# Altium footprint library DIP-DBL  0607.PCBLIB: 54 footprints (part 3 of 4)
Each footprint in its own frame and in the unit in brackets; x right, y up, seen from the top. Pads: shape width x height; smd on the part's side, far side on the other; paste and mask are expansions set on the pad; w line width, h text height; cw(c..) or ccw(c..) is an arc to the next point about the centre after c.
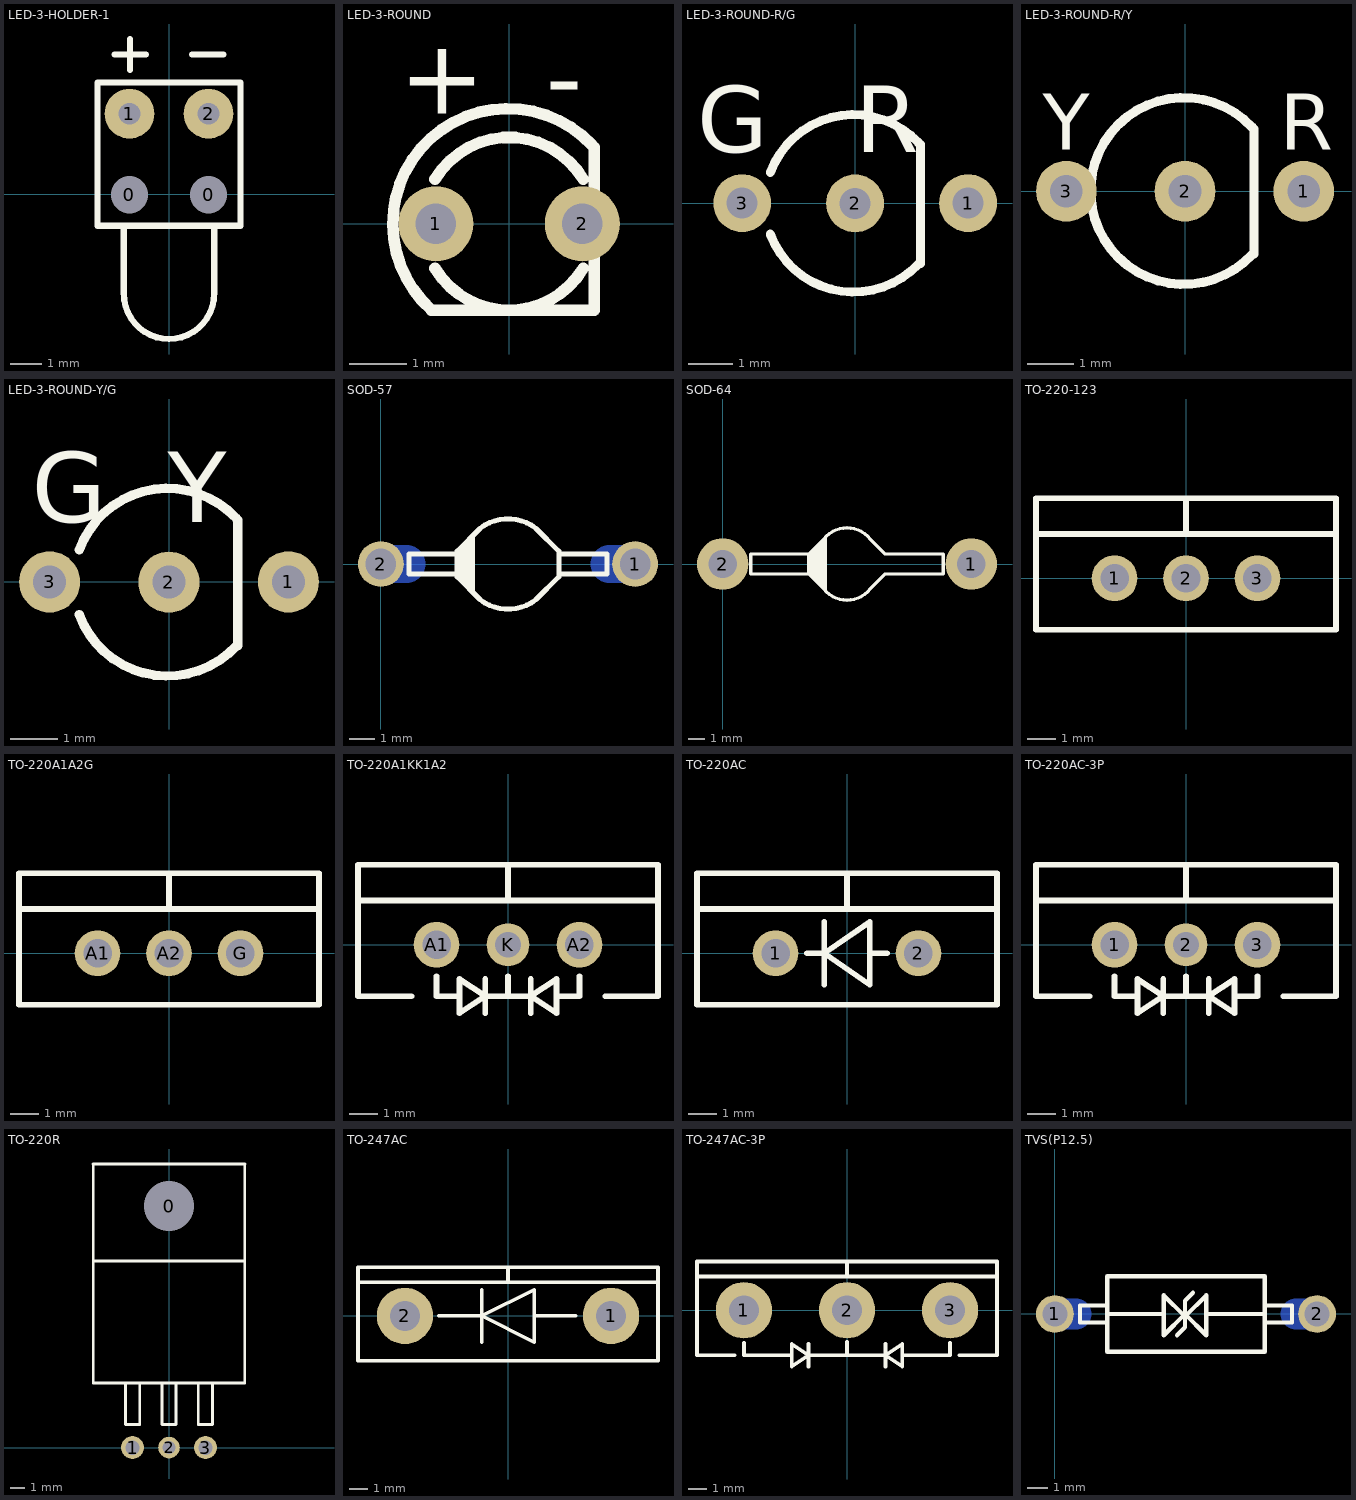
[diagram p2: the footprints below, top view; thin cyan lines are the x and y axes]

## LED-3-HOLDER-1 [mm]
height 8.6
pads (4):
  round 0.8 hole 1.2 unplated: 0(-1.27,-0.009) 0(1.27,-0.009)
  round 1.6 hole 0.7 unplated: 1(-1.27,2.591) 2(1.27,2.591)
TopOverlay:
  lines w0.2: -1.75,4.491 -0.75,4.491 ; -1.45,-1.009 -1.45,-3.195 ccw(c0,-3.195) 1.45,-3.195 1.45,-1.009 ; -1.25,3.991 -1.25,4.991 ; 0.75,4.491 1.75,4.491 ; -2.3,-1.009 -2.3,3.591 2.3,3.591 2.3,-1.009 -2.3,-1.009
BottomOverlay:
  lines w0.7: 0,1.651 0,3.429

## LED-3-ROUND [mm]
height 6
pads (2):
  round 1.3 hole 0.7: 1(-1.27,0) 2(1.27,0)
TopOverlay:
  lines w0.2: -1.35,-1.5 1.48,-1.5 1.48,1.325 ; -1.346,-1.495 cw(c-0.02,0) 1.441,1.363 ; -1.286,-0.772 ccw(c0,0) 1.286,-0.772 ; -1.286,0.772 cw(c0,0) 1.286,0.772
  text "-" at 0.635,1.905 h1.3
  text "+" at -1.905,1.905 h1.3
BottomOverlay:
  lines w0.7: 0,-0.94 0,0.838

## LED-3-ROUND-R/G [mm]
pads (3):
  round 1.3 hole 0.7: 1(2.54,0) 2(-0.001,-0.004) 3(-2.54,0)
TopOverlay:
  lines w0.2: -1.909,-0.692 ccw(c-0.034,-0.001) 1.427,-1.364 ; -1.909,0.683 cw(c-0.034,-0.008) 1.427,1.355 ; 1.466,-1.358 1.466,1.317
  text "G   R" at -3.556,1.143 h1.5
BottomOverlay:
  lines w0.7: -1.27,-0.94 -1.27,0.838 ; 1.269,-0.944 1.269,0.834

## LED-3-ROUND-R/Y [mm]
pads (3):
  round 1.3 hole 0.7: 1(2.54,0) 2(0,0) 3(-2.54,0)
TopOverlay:
  lines w0.2: 1.437,-1.356 cw(c-0.024,0.007) 1.437,1.37 ; 1.476,-1.343 1.476,1.332
  text "Y" at -3.048,0.889 h1.2
  text "R" at 2.032,0.889 h1.2
BottomOverlay:
  lines w0.7: -1.27,-0.94 -1.27,0.838 ; 1.27,-0.94 1.27,0.838

## LED-3-ROUND-Y/G [mm]
pads (3):
  round 1.3 hole 0.7: 1(2.54,0) 2(-0.001,-0.004) 3(-2.54,0)
TopOverlay:
  lines w0.2: -1.909,-0.692 ccw(c-0.034,-0.001) 1.427,-1.364 ; -1.909,0.683 cw(c-0.034,-0.008) 1.427,1.355 ; 1.466,-1.358 1.466,1.317
  text "G  Y" at -2.921,1.27 h1.5
BottomOverlay:
  lines w0.7: -1.27,-0.94 -1.27,0.838 ; 1.269,-0.944 1.269,0.834

## SOD-57 [mm]
pads (2):
  round 1.8 hole 1.2: 1(10,0) 2(0,0)
BottomLayer:
  lines w1.5: 0,0 1,0 ; 9,0 10,0
TopOverlay:
  lines w0.2: 3,-0.4 1.1,-0.4 1.1,0.4 3,0.4 ; 3.1,-0.575 3.1,0.575 ; 3.25,-0.725 3.25,0.7 ; 3.425,-0.875 3.425,0.875 ; 3.6,-1.05 3.6,1.075 ; 7,-0.4 8.9,-0.4 8.9,0.4 7,0.4 ; 7,-0.5 7,0.5 ; 7,-0.5 6.1,-1.4 cw(c5,0) 3.9,-1.4 3,-0.5 3,0.5 3.9,1.4 cw(c5,0) 6.1,1.4 7,0.5 ; 7,-0.5 7,0.5
BottomSolder:
  lines w1: 0,0 1,0 ; 9,0 10,0

## SOD-64 [mm]
pads (2):
  round 3.1 hole 1.7: 1(15,0) 2(0,0)
TopOverlay:
  lines w0.2: 5.3,-0.6 5.3,0.7 ; 5.5,-0.8 5.5,0.8 ; 5.6,-1 5.6,0.9 ; 5.7,-1.1 5.7,1.1 ; 5.9,-1.3 5.9,1.2 ; 6,-1.4 6,1.4 ; 6.2,-1.6 6.2,1.6 ; 5.2,-0.6 5.2,0.6 ; 5.2,-0.6 1.7,-0.6 1.7,0.6 5.2,0.6 ; 5.2,-0.6 6.1,-1.5 ccw(c7.5,-0.4) 8.9,-1.5 9.8,-0.6 13.3,-0.6 13.3,0.6 9.8,0.6 8.9,1.5 ccw(c7.5,0.4) 6.1,1.5 5.2,0.6

## TO-220-123 [mm] "LM7815"
height 20
pads (3):
  round 1.6 hole 1: 1(-2.5,0) 2(0,0) 3(2.5,0)
TopOverlay:
  lines w0.2: -5.25,1.55 5.25,1.55 ; 0,1.55 0,2.8 ; -5.25,-1.8 -5.25,2.8 5.25,2.8 5.25,-1.8 -5.25,-1.8
BottomOverlay:
  lines w0.7: -1.25,-1 -1.25,1 ; 1.25,-1 1.25,1

## TO-220A1A2G [mm]
height 20
pads (3):
  round 1.6 hole 1: A1(-2.5,0) A2(0,0) G(2.5,0)
TopOverlay:
  lines w0.2: -5.25,1.55 5.25,1.55 ; 0,1.55 0,2.8 ; -5.25,-1.8 5.25,-1.8 5.25,2.8 -5.25,2.8 -5.25,-1.8
BottomOverlay:
  lines w0.7: -1.25,-1 -1.25,1 ; 1.25,-1 1.25,1

## TO-220A1KK1A2 [mm]
height 20
pads (3):
  round 1.6 hole 1: A1(-2.5,0) A2(2.5,0)
  round 1.5 hole 0.9: K(0,0)
TopOverlay:
  lines w0.2: -5.25,1.55 5.25,1.55 ; -3.375,-1.8 -5.25,-1.8 -5.25,2.8 5.25,2.8 5.25,-1.8 3.4,-1.8 ; -2.5,-1.1 -2.5,-1.8 -1.7,-1.8 ; -0.8,-2.4 -0.8,-1.2 ; 0,-1.1 0,-1.8 ; 0,1.55 0,2.8 ; 0.8,-2.4 0.8,-1.2 ; 1.7,-1.8 2.5,-1.8 2.5,-1.1 ; -0.8,-1.8 -1.7,-2.4 -1.7,-1.2 -0.8,-1.8 ; -0.8,-1.8 0,-1.8 ; 0,-1.8 0.8,-1.8 ; 0.8,-1.8 1.7,-2.4 1.7,-1.2 0.8,-1.8
BottomOverlay:
  lines w0.7: -1.25,-1 -1.25,1 ; 1.25,-1 1.25,1

## TO-220AC [mm]
height 20
pads (2):
  round 1.6 hole 1: 1(-2.5,0) 2(2.5,0)
TopOverlay:
  lines w0.2: -5.25,1.55 5.25,1.55 ; -1.4,0 -0.8,0 ; -0.8,-1.1 -0.8,1.1 ; 0,1.55 0,2.8 ; 0.8,0 1.4,0 ; -0.8,0 0.8,-1.1 0.8,1.1 -0.8,0 ; -5.25,-1.8 5.25,-1.8 5.25,2.8 -5.25,2.8 -5.25,-1.8

## TO-220AC-3P [mm]
height 20
pads (3):
  round 1.6 hole 1: 1(-2.5,0) 3(2.5,0)
  round 1.5 hole 0.9: 2(0,0)
TopOverlay:
  lines w0.2: -5.25,1.55 5.25,1.55 ; -3.375,-1.8 -5.25,-1.8 -5.25,2.8 5.25,2.8 5.25,-1.8 3.4,-1.8 ; -2.5,-1.1 -2.5,-1.8 -1.7,-1.8 ; -0.8,-2.4 -0.8,-1.2 ; 0,-1.1 0,-1.8 ; 0,1.55 0,2.8 ; 0.8,-2.4 0.8,-1.2 ; 1.7,-1.8 2.5,-1.8 2.5,-1.1 ; -0.8,-1.8 0,-1.8 ; -0.8,-1.8 -1.7,-1.2 -1.7,-2.4 -0.8,-1.8 ; 0,-1.8 0.8,-1.8 ; 0.8,-1.8 1.7,-1.2 1.7,-2.4 0.8,-1.8
BottomOverlay:
  lines w0.7: -1.25,-1 -1.25,1 ; 1.25,-1 1.25,1

## TO-220R [mm]
pads (4):
  round 3 hole 3.5: 0(0,16.81)
  round 1.6 hole 1: 1(-2.54,0) 3(2.54,0)
  round 1.5 hole 0.9: 2(0,0)
TopOverlay:
  lines w0.2: -5.28,19.74 5.28,19.74 ; -5.27,13 5.27,13 ; -5.27,19.74 -5.27,4.5 5.27,4.5 5.27,19.74 ; -3.04,4.5 -3.04,1.6 -2.04,1.6 -2.04,4.5 ; -0.5,4.5 -0.5,1.6 0.5,1.6 0.5,4.5 ; 2.04,4.5 2.04,1.6 3.04,1.6 3.04,4.5
BottomOverlay:
  lines w0.85: -1.245,-1.143 -1.245,1.143 ; 1.245,-1.143 1.245,1.143

## TO-247AC [mm]
pads (2):
  round 3 hole 1.6: 1(5.5,0) 2(-5.5,0)
TopOverlay:
  lines w0.2: -8,1.8 8,1.8 ; -3.7,0 -1.4,0 ; -1.4,-1.4 -1.4,1.4 ; 0,1.8 0,2.6 ; 1.4,0 3.6,0 ; -1.4,0 1.4,-1.4 1.4,1.4 -1.4,0 ; -8,-2.4 -8,2.6 8,2.6 8,-2.4 -8,-2.4

## TO-247AC-3P [mm]
pads (3):
  round 3 hole 1.6: 1(-5.5,0) 2(0,0) 3(5.5,0)
TopOverlay:
  lines w0.2: -8,1.8 8,1.8 ; -6,-2.4 -8,-2.4 -8,2.6 8,2.6 8,-2.4 6,-2.4 ; -5.5,-1.75 -5.5,-2.4 -2.95,-2.4 ; -2.05,-3 -2.05,-1.8 ; 0,-1.7 0,-2.4 ; 0,1.8 0,2.6 ; 2.05,-3 2.05,-1.8 ; 2.95,-2.4 5.5,-2.4 5.5,-1.75 ; -2.05,-2.4 0,-2.4 ; -2.05,-2.4 -2.95,-1.8 -2.95,-3 -2.05,-2.4 ; 0,-2.4 2.05,-2.4 ; 2.05,-2.4 2.95,-3 2.95,-1.8 2.05,-2.4

## TVS(P12.5) [mm]
pads (2):
  round 1.8 hole 1.2: 1(0,0) 2(12.5,0)
BottomLayer:
  lines w1.5: 0,0 1,0 ; 11.5,0 12.5,0
TopOverlay:
  lines w0.2: 2.5,-0.4 1.2,-0.4 1.2,0.4 2.5,0.4 ; 10,-0.4 11.3,-0.4 11.3,0.4 10,0.4 ; 2.5,-1.8 10,-1.8 10,1.8 2.5,1.8 2.5,-1.8
  lines w0.203: 2.5,0 5.187,0 ; 5.822,-1.016 6.203,-0.635 6.203,0.635 6.584,1.016 ; 7.219,0 10,0 ; 5.187,-1.016 5.187,0.889 6.203,-0.127 7.219,0.889 7.219,-1.016 6.203,0 5.187,-1.016
BottomSolder:
  lines w1: 0,0 1,0 ; 11.5,0 12.5,0